# Altium footprint library Harwin Spring Contacts.PcbLib: 1 footprints
Each footprint in its own frame and in the unit in brackets; x right, y up, seen from the top. Pads: shape width x height; smd on the part's side, far side on the other; paste and mask are expansions set on the pad; w line width, h text height; cw(c..) or ccw(c..) is an arc to the next point about the centre after c.
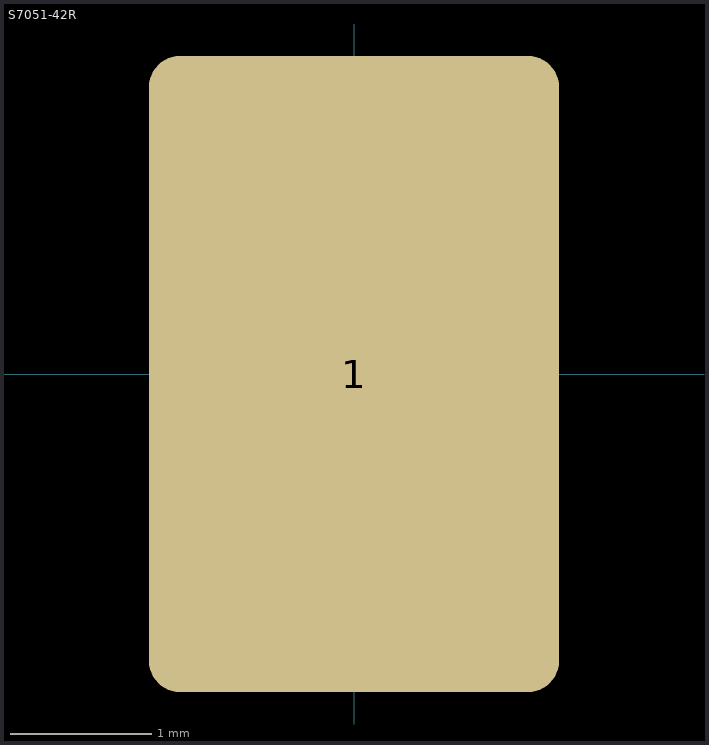
[diagram p0: the footprint, top view; thin cyan lines are the x and y axes]

## S7051-42R [mm] "6mm Gold Spring Contact"
pads (1):
  rrect15% 2.9x4.5 smd: 1(0,0)